# EAGLE library part PIC18F25K50T-I/ML (library PIC18F25K50T-I_ML)
None
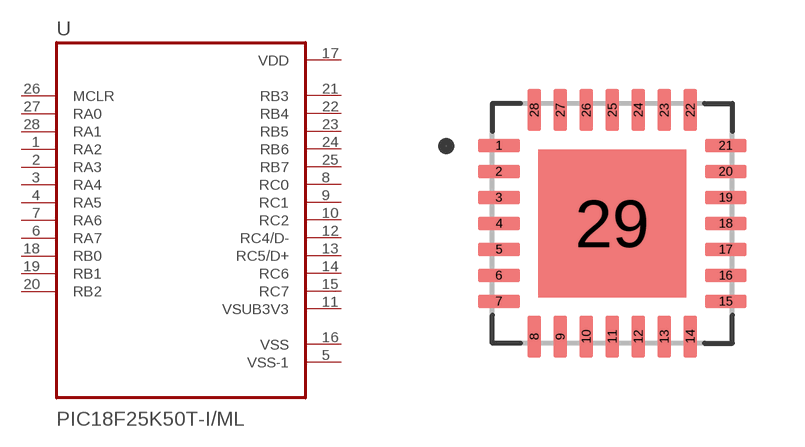
[diagram p0: symbol with the pads of QFN65P600X600X100-29N; footprint QFN65P600X600X100-29N]

Designator prefix U

## PIC18F25K50T-I/ML (Availability: Good; Description: 32 KB Flash, 2048 bytes RAM, 48 MHz Int. Osc, 25 I/0, PIC18 Core, USB 2.0; MF: Microchip; MP: PIC18F25K50T-I/ML; Package: QFN-28 Microchip; Price: 2.47 USD)  [QFN65P600X600X100-29N]
1  RA2
2  RA3
3  RA4
4  RA5
5  VSS-1  pwr
6  RA7
7  RA6
8  RC0
9  RC1
10  RC2
11  VSUB3V3
12  RC4/D-
13  RC5/D+
14  RC6
15  RC7
16  VSS  pwr
17  VDD  pwr
18  RB0
19  RB1
20  RB2
21  RB3
22  RB4
23  RB5
24  RB6
25  RB7
26  MCLR
27  RA0
28  RA1

## Footprint QFN65P600X600X100-29N (pad centres in mm)
smd 1.04 x 0.33: 1 -2.835,1.95; 2 -2.835,1.3; 3 -2.835,0.65; 4 -2.835,0; 5 -2.835,-0.65; 6 -2.835,-1.3; 7 -2.835,-1.95; 15 2.835,-1.95; 16 2.835,-1.3; 17 2.835,-0.65; 18 2.835,0; 19 2.835,0.65; 20 2.835,1.3; 21 2.835,1.95
smd 0.33 x 1.04: 8 -1.95,-2.835; 9 -1.3,-2.835; 10 -0.65,-2.835; 11 0,-2.835; 12 0.65,-2.835; 13 1.3,-2.835; 14 1.95,-2.835; 22 1.95,2.835; 23 1.3,2.835; 24 0.65,2.835; 25 0,2.835; 26 -0.65,2.835; 27 -1.3,2.835; 28 -1.95,2.835
smd 3.7 x 3.7: 29 0,0